# Altium schematic symbol library 7907_Library.SchLib: 23 symbols
Pins are listed as number, name and electrical type; pins without a type are passive.

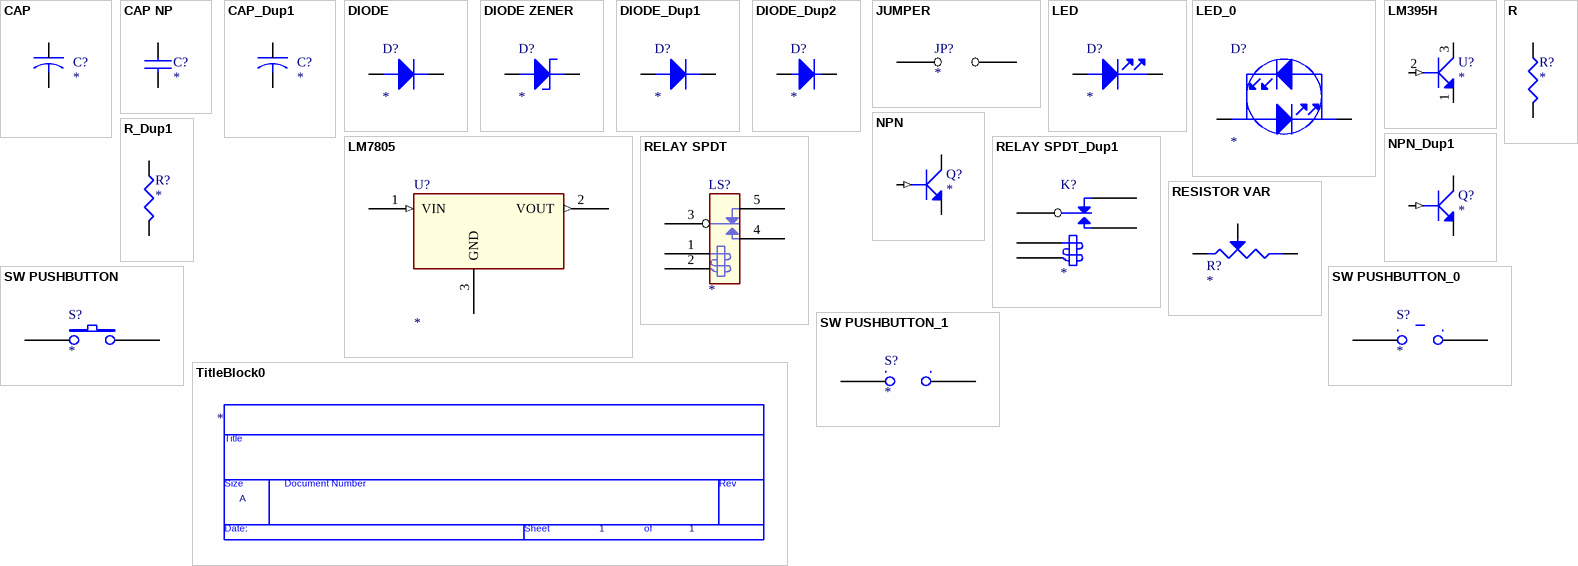
[diagram p0: symbols CAP to TitleBlock0]

## CAP
designator C?
pins: 1, 2

## CAP NP
designator C?
pins: 1, 2

## CAP_Dup1
designator C?
pins: 1, 2

## DIODE
designator D?
pins: ANODE, CATHODE

## DIODE ZENER
designator D?
pins: ANODE, CATHODE

## DIODE_Dup1
designator D?
pins: ANODE, CATHODE

## DIODE_Dup2
designator D?
pins: 1, 2

## JUMPER
designator JP?
pins: 1, 2

## LED
designator D?
pins: ANODE, CATHODE

## LED_0
designator D?
pins: ANODE, CATHODE

## LM395H
designator U?
pins: 1 E, 2 B (in), 3 C

## LM7805
designator U?
pins: 1 VIN (in), 2 VOUT (out), 3 GND

## NPN
designator Q?
pins: BASE (in), COLLECTOR, EMITTER

## NPN_Dup1
designator Q?
pins: BASE (in), COLLECTOR, EMITTER

## R
designator R?
pins: 1, 2

## R_Dup1
designator R?
pins: 1, 2

## RELAY SPDT
designator LS?
pins: 1 COIL1, 2 COIL2, 3 COMMON, 4 NO, 5 NC

## RELAY SPDT_Dup1
designator K?
pins: COIL1, COIL2, COMMON, NC, NO

## RESISTOR VAR
designator R?
pins: A, B, WIPER

## SW PUSHBUTTON
designator S?
pins: 1, 2

## SW PUSHBUTTON_0
designator S?
pins: 1, 2

## SW PUSHBUTTON_1
designator S?
pins: 1, 2

## TitleBlock0
designator *  Page Count: 1  Page Size: A  (graphical)
Page Number: 1; Page Create Date: March  8, 1995
text: Title; Size; Document Number; Rev; Date:; Sheet; of